# EAGLE library part M9107 (library NewSDR)
Jackson Labs SMD GPSDO (MtronPTI) GPS Disciplined Oscillator
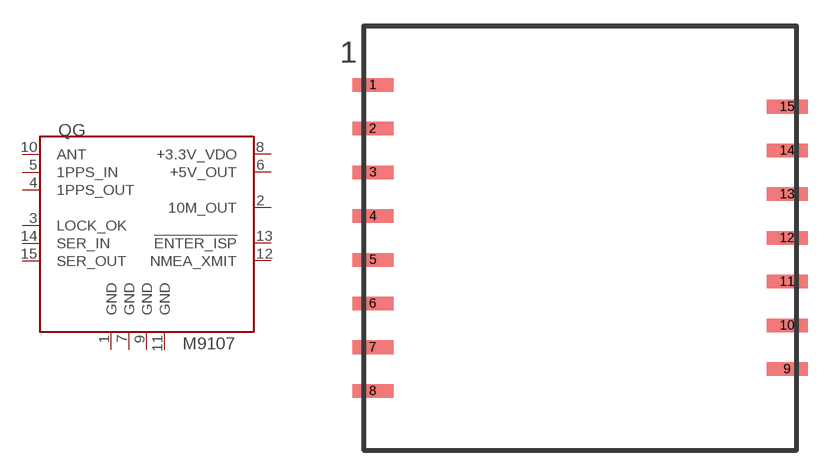
[diagram p173: symbol with the pads of M9107; footprint M9107]

Designator prefix QG

## M9107  [M9107]
1  GND  pwr
2  10M_OUT  out
3  LOCK_OK  out
4  1PPS_OUT  out
5  1PPS_IN  in
6  +5V_OUT  pwr
7  GND  pwr
8  +3.3V_VDO  pwr
9  GND  pwr
10  ANT  pas
11  GND  pwr
12  NMEA_XMIT  out
13  !ENTER_ISP  in
14  SER_IN  in
15  SER_OUT  out

## Footprint M9107 (pad centres in mm)
Jackson Labs SMD GPSDO (MtronPTI) GPS Disciplined Oscillator Footprint
smd 2.388 x 0.787: 1 -12.04,8.89; 2 -12.04,6.35; 3 -12.04,3.81; 4 -12.04,1.27; 5 -12.04,-1.27; 6 -12.04,-3.81; 7 -12.04,-6.35; 8 -12.04,-8.89; 9 12.04,-7.62; 10 12.04,-5.08; 11 12.04,-2.54; 12 12.04,0; 13 12.04,2.54; 14 12.04,5.08; 15 12.04,7.62